# Altium footprint library misc connector.PcbLib: 1 footprints
Each footprint in its own frame and in the unit in brackets; x right, y up, seen from the top. Pads: shape width x height; smd on the part's side, far side on the other; paste and mask are expansions set on the pad; w line width, h text height; cw(c..) or ccw(c..) is an arc to the next point about the centre after c.
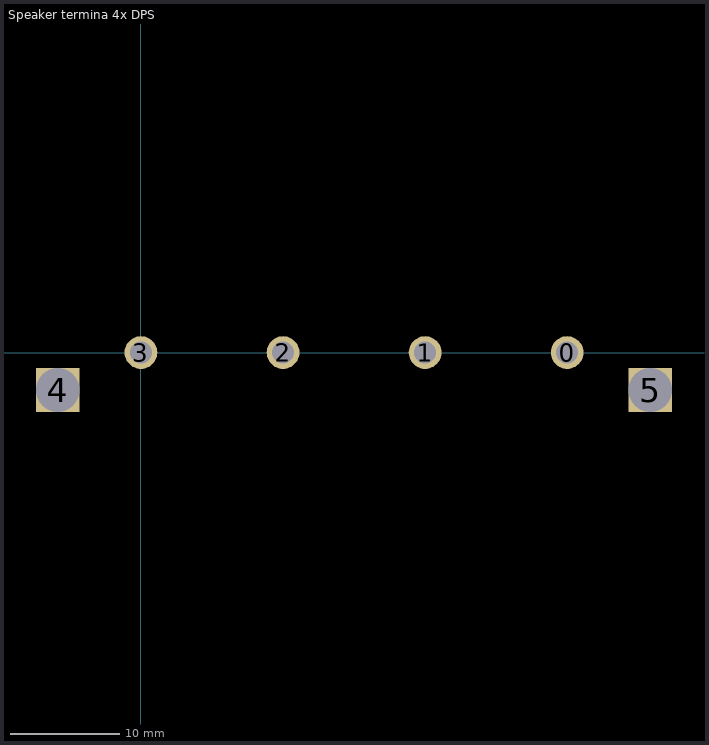
[diagram p0: the footprint, top view; thin cyan lines are the x and y axes]

## Speaker termina 4x DPS [mm]
height 20
pads (6):
  round 3 hole 2: 0(39,0) 1(26,0) 2(13,0) 3(0,0)
  rect 4x4 hole 4 square unplated paste+0 mask+0: 4(-7.62,-3.429) 5(46.609,-3.429)
3D body: height 20, standoff -5, extent -12.442,-5.5 51.558,15